# Altium footprint library PCB - POWER INDUCTORS - WURTH WE-LQS 2512.PcbLib: 1 footprints
Each footprint in its own frame and in the unit in brackets; x right, y up, seen from the top. Pads: shape width x height; smd on the part's side, far side on the other; paste and mask are expansions set on the pad; w line width, h text height; cw(c..) or ccw(c..) is an arc to the next point about the centre after c.
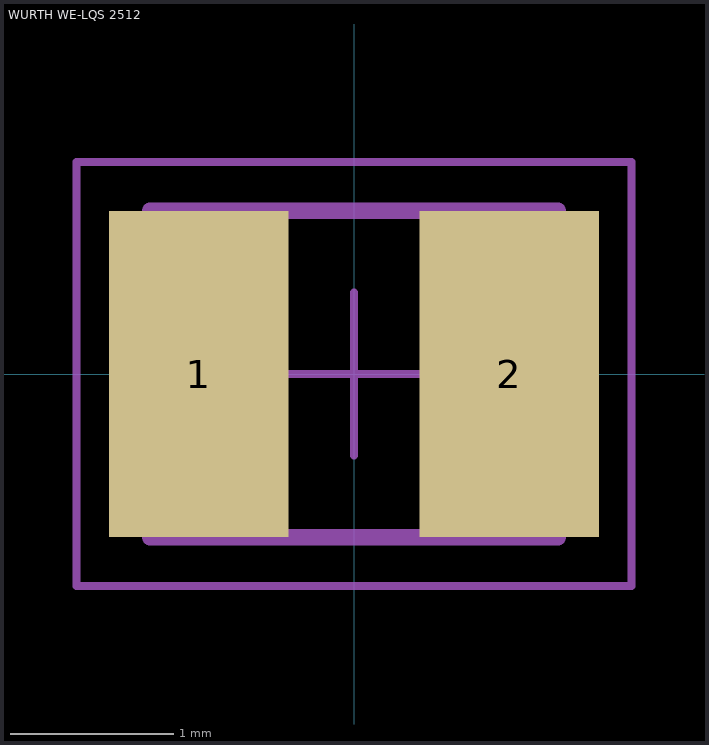
[diagram p0: the footprint, top view; thin cyan lines are the x and y axes]

## WURTH WE-LQS 2512 [mm] "SMD Power Inductor, 2-Leads, body 2.5x2mm"
height 1.2
pads (2):
  rect 1.1x2 smd: 1(-0.95,0) 2(0.95,0)
Top Assembly:
  lines w0.05: -0.5,0 0.5,0 ; 0,-0.5 0,0.5
Top Component Outline:
  lines w0.1: -1.25,-1 1.25,-1 ; -1.25,-1 -1.25,1 ; -1.25,-1 1.25,-1 ; -1.25,-1 -1.25,1 ; -1.25,1 1.25,1 ; -1.25,1 1.25,1 ; 1.25,-1 1.25,1 ; 1.25,-1 1.25,1
Top Courtyard:
  lines w0.05: -1.7,-1.3 -1.7,1.3 1.7,1.3 1.7,-1.3 -1.7,-1.3
3D body "IndLQS_2512.stp": height 1.2, standoff 0, extent -1.25,-1 1.25,1